# EAGLE library part SERVOS8 (library custom-2002)
Conector para 8 servos futaba
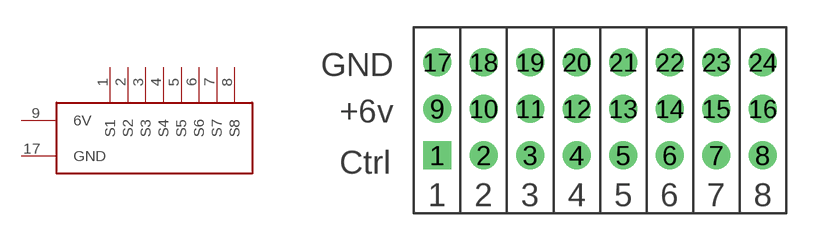
[diagram p10: symbol with the pads of PAD8X3; footprint PAD8X3]

Designator prefix -

## SERVOS8  [PAD8X3]
1  S1
2  S2
3  S3
4  S4
5  S5
6  S6
7  S7
8  S8
9  6V  pas
17  GND  pwr

## Footprint PAD8X3 (pad centres in mm)
drill 1.016 square: 1 0,0
drill 1.016 round: 2 2.54,0; 3 5.08,0; 4 7.62,0; 5 10.16,0; 6 12.7,0; 7 15.24,0; 8 17.78,0; 9 0,2.54; 10 2.54,2.54; 11 5.08,2.54; 12 7.62,2.54; 13 10.16,2.54; 14 12.7,2.54; 15 15.24,2.54; 16 17.78,2.54; 17 0,5.08; 18 2.54,5.08; 19 5.08,5.08; 20 7.62,5.08; 21 10.16,5.08; 22 12.7,5.08; 23 15.24,5.08; 24 17.78,5.08